# Altium footprint library 素材2.PcbLib: 20 footprints (part 2 of 2)
Each footprint in its own frame and in the unit in brackets; x right, y up, seen from the top. Pads: shape width x height; smd on the part's side, far side on the other; paste and mask are expansions set on the pad; w line width, h text height; cw(c..) or ccw(c..) is an arc to the next point about the centre after c.
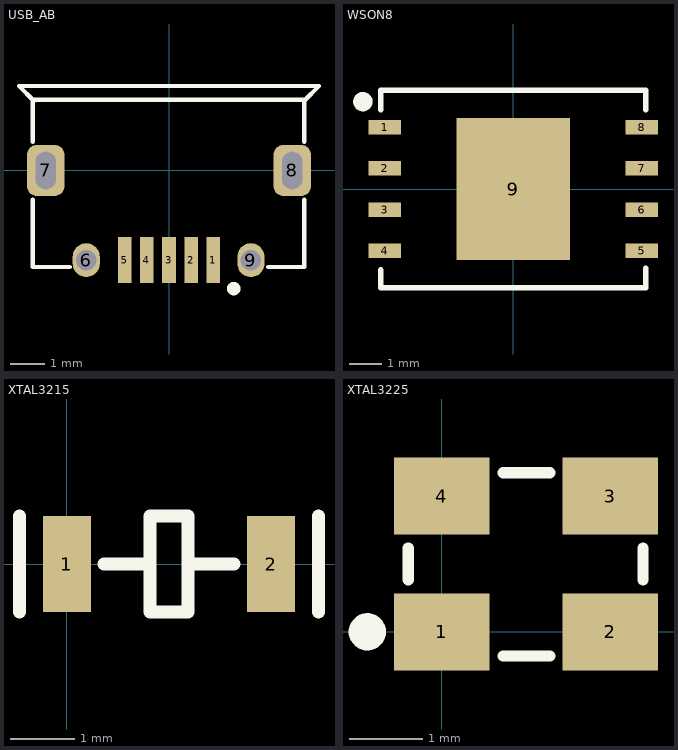
[diagram p1: the footprints below, top view; thin cyan lines are the x and y axes]

## USB_AB [mm]
height 0.65
pads (9):
  rect 0.4x1.35 smd: 1(1.3,-2.642) 2(0.65,-2.642) 3(0,-2.642) 4(-0.65,-2.642) 5(-1.3,-2.642)
  oval 0.8x1 hole 0.6: 6(-2.438,-2.642) 9(2.413,-2.642)
  rrect50% 1.1x1.5 hole 0.6 slot 1.1 at 90 deg: 7(-3.632,0) 8(3.632,0)
Top Overlay:
  circle w0.2: c1.907,-3.48 r0.1
  lines w0.127: -4.013,-0.864 -4.013,-2.845 -2.921,-2.845 ; -4.013,0.851 -4.013,2.083 -2.438,2.083 ; -3.988,2.057 -4.42,2.489 4.42,2.489 3.988,2.057 ; -3.988,2.083 3.988,2.083 3.988,0.851 ; 2.921,-2.845 3.988,-2.845 3.988,-0.864

## WSON8 [mm]
pads (9):
  rect 1x0.45 smd: 1(-3.975,1.905) 2(-3.975,0.635) 3(-3.975,-0.635) 4(-3.975,-1.905) 5(3.975,-1.905) 6(3.975,-0.635) 7(3.975,0.635) 8(3.975,1.905)
  rect 3.5x4.4 smd: 9(0,0)
Top Overlay:
  circle w0.3: c-4.65,2.7 r0.15
  lines w0.178: -4.1,-2.504 -4.1,-3.05 4.1,-3.05 4.1,-2.449 ; -4.1,2.449 -4.1,3.05 4.1,3.05 ; 4.1,2.449 4.1,3.048
Mechanical 15:
  lines w0.1: -0.5,0 0.5,0 ; 0,-0.5 0,0.5

## XTAL3215 [mm]
height 0.65
pads (2):
  rect 0.75x1.5 smd: 1(0,0) 2(3.2,0)
Top Overlay:
  lines w0.203: -0.742,-0.75 -0.742,0.75 ; 0.578,0 1.3,0 ; 2,0 2.617,0 ; 3.942,-0.75 3.942,0.75 ; 1.3,-0.75 1.3,0.75 1.9,0.75 1.9,-0.75 1.3,-0.75

## XTAL3225 [mm]
height 0.65
pads (4):
  rect 1.3x1.05 smd: 1(0,0) 2(2.3,0) 3(2.3,1.85) 4(0,1.85)
Top Overlay:
  circle w0.254: c-1.016,0 r0.127
  lines w0.152: -0.457,0.711 -0.457,1.143 ; 0.838,-0.33 1.473,-0.33 ; 0.838,2.17 1.473,2.17 ; 2.743,0.711 2.743,1.143